# Altium integrated library WS-DISV 2.54 mm small compact SMD Dip Switch with raised actuator.IntLib: 11 symbols
Pins are listed as number, name and electrical type; pins without a type are passive.

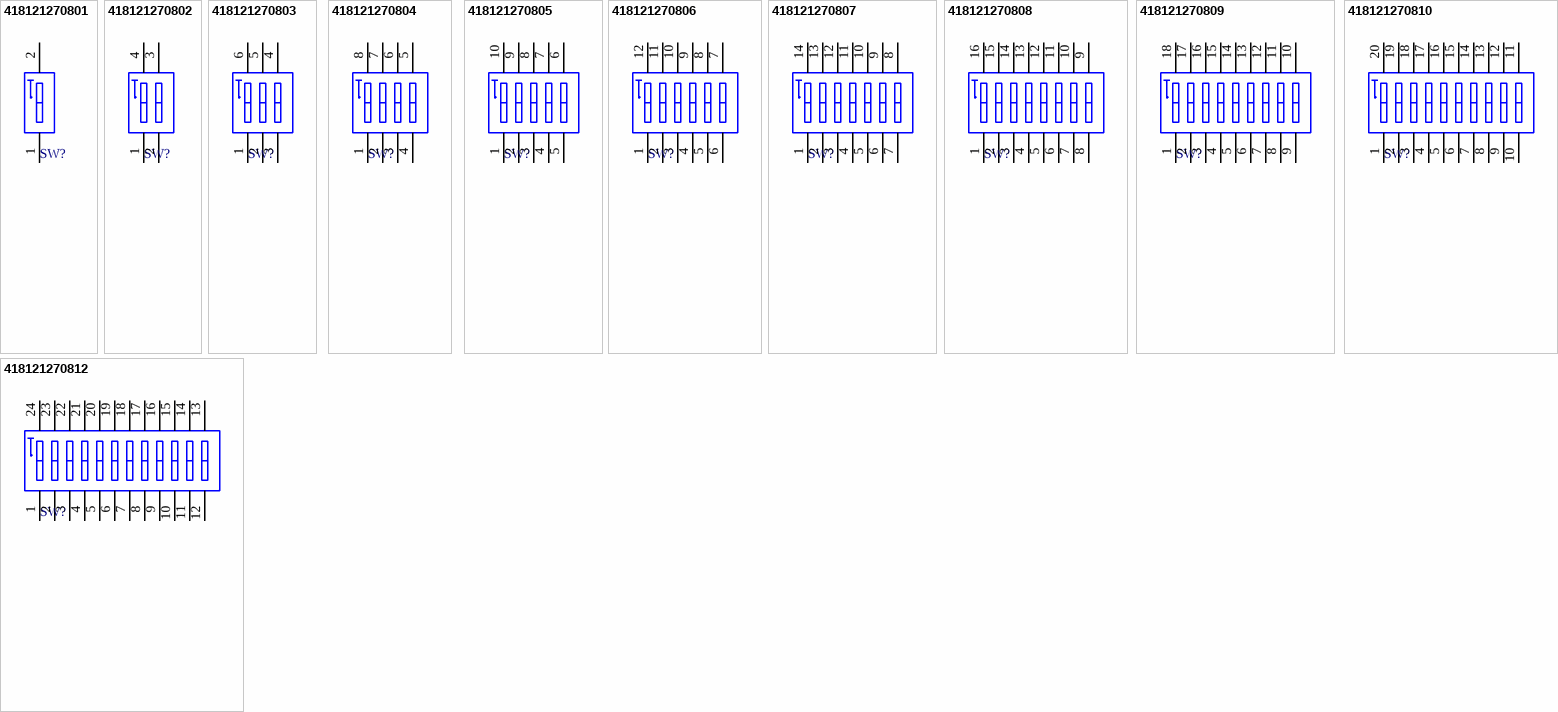
[diagram p0: symbols 418121270801 to 418121270812]

## 418121270801
designator SW?
WS-DISV 2.54 mm small compact SMD Dip Switch with raised actuator; PartNumber: 418121270801; NoPins: 02; PackageReference: 418121270801; ComponentLink1Description: Manufacturer URL; ComponentLink1URL: http://www.we-online.com; ComponentLink2Description: Datasheet; ComponentLink2URL: http://katalog.we-online.de/em/datasheet/4181212708xx.pdf
footprint 418121270801 (01p, 2.54mm Pitch, Horizontal, IC Type, SMT, raised Actuator, black, without Tape, T&R)
pins: 1, 2

## 418121270802
designator SW?
WS-DISV 2.54 mm small compact SMD Dip Switch with raised actuator; PartNumber: 418121270802; NoPins: 04; PackageReference: 418121270802; ComponentLink1Description: Manufacturer URL; ComponentLink1URL: http://www.we-online.com; ComponentLink2Description: Datasheet; ComponentLink2URL: http://katalog.we-online.de/em/datasheet/4181212708xx.pdf
footprint 418121270802 (02p, 2.54mm Pitch, Horizontal, IC Type, SMT, raised Actuator, black, without Tape, T&R)
pins: 1, 2, 3, 4

## 418121270803
designator SW?
WS-DISV 2.54 mm small compact SMD Dip Switch with raised actuator; PartNumber: 418121270803; NoPins: 06; PackageReference: 418121270803; ComponentLink1Description: Manufacturer URL; ComponentLink1URL: http://www.we-online.com; ComponentLink2Description: Datasheet; ComponentLink2URL: http://katalog.we-online.de/em/datasheet/4181212708xx.pdf
footprint 418121270803 (03p, 2.54mm Pitch, Horizontal, IC Type, SMT, raised Actuator, black, without Tape, T&R)
pins: 1, 2, 3, 4, 5, 6

## 418121270804
designator SW?
WS-DISV 2.54 mm small compact SMD Dip Switch with raised actuator; PartNumber: 418121270804; NoPins: 08; PackageReference: 418121270804; ComponentLink1Description: Manufacturer URL; ComponentLink1URL: http://www.we-online.com; ComponentLink2Description: Datasheet; ComponentLink2URL: http://katalog.we-online.de/em/datasheet/4181212708xx.pdf
footprint 418121270804 (04p, 2.54mm Pitch, Horizontal, IC Type, SMT, raised Actuator, black, without Tape, T&R)
pins: 1, 2, 3, 4, 5, 6, 7, 8

## 418121270805
designator SW?
WS-DISV 2.54 mm small compact SMD Dip Switch with raised actuator; PartNumber: 418121270805; NoPins: 10; PackageReference: 418121270805; ComponentLink1Description: Manufacturer URL; ComponentLink1URL: http://www.we-online.com; ComponentLink2Description: Datasheet; ComponentLink2URL: http://katalog.we-online.de/em/datasheet/4181212708xx.pdf
footprint 418121270805 (05p, 2.54mm Pitch, Horizontal, IC Type, SMT, raised Actuator, black, without Tape, T&R)
pins: 1, 2, 3, 4, 5, 6, 7, 8, 9, 10

## 418121270806
designator SW?
WS-DISV 2.54 mm small compact SMD Dip Switch with raised actuator; PartNumber: 418121270806; NoPins: 12; PackageReference: 418121270806; ComponentLink1Description: Manufacturer URL; ComponentLink1URL: http://www.we-online.com; ComponentLink2Description: Datasheet; ComponentLink2URL: http://katalog.we-online.de/em/datasheet/4181212708xx.pdf
footprint 418121270806 (06p, 2.54mm Pitch, Horizontal, IC Type, SMT, raised Actuator, black, without Tape, T&R)
pins: 1, 2, 3, 4, 5, 6, 7, 8, 9, 10, 11, 12

## 418121270807
designator SW?
WS-DISV 2.54 mm small compact SMD Dip Switch with raised actuator; PartNumber: 418121270807; NoPins: 14; PackageReference: 418121270807; ComponentLink1Description: Manufacturer URL; ComponentLink1URL: http://www.we-online.com; ComponentLink2Description: Datasheet; ComponentLink2URL: http://katalog.we-online.de/em/datasheet/4181212708xx.pdf
footprint 418121270807 (07p, 2.54mm Pitch, Horizontal, IC Type, SMT, raised Actuator, black, without Tape, T&R)
pins: 1, 2, 3, 4, 5, 6, 7, 8, 9, 10, 11, 12, 13, 14

## 418121270808
designator SW?
WS-DISV 2.54 mm small compact SMD Dip Switch with raised actuator; PartNumber: 418121270808; NoPins: 16; PackageReference: 418121270808; ComponentLink1Description: Manufacturer URL; ComponentLink1URL: http://www.we-online.com; ComponentLink2Description: Datasheet; ComponentLink2URL: http://katalog.we-online.de/em/datasheet/4181212708xx.pdf
footprint 418121270808 (08p, 2.54mm Pitch, Horizontal, IC Type, SMT, raised Actuator, black, without Tape, T&R)
pins: 1, 2, 3, 4, 5, 6, 7, 8, 9, 10, 11, 12, 13, 14, 15, 16

## 418121270809
designator SW?
WS-DISV 2.54 mm small compact SMD Dip Switch with raised actuator; PartNumber: 418121270809; NoPins: 18; PackageReference: 418121270809; ComponentLink1Description: Manufacturer URL; ComponentLink1URL: http://www.we-online.com; ComponentLink2Description: Datasheet; ComponentLink2URL: http://katalog.we-online.de/em/datasheet/4181212708xx.pdf
footprint 418121270809 (09p, 2.54mm Pitch, Horizontal, IC Type, SMT, raised Actuator, black, without Tape, T&R)
pins: 1, 2, 3, 4, 5, 6, 7, 8, 9, 10, 11, 12, 13, 14, 15, 16, 17, 18

## 418121270810
designator SW?
WS-DISV 2.54 mm small compact SMD Dip Switch with raised actuator; PartNumber: 418121270810; NoPins: 20; PackageReference: 418121270810; ComponentLink1Description: Manufacturer URL; ComponentLink1URL: http://www.we-online.com; ComponentLink2Description: Datasheet; ComponentLink2URL: http://katalog.we-online.de/em/datasheet/4181212708xx.pdf
footprint 418121270810 (10p, 2.54mm Pitch, Horizontal, IC Type, SMT, raised Actuator, black, without Tape, T&R)
pins: 1, 2, 3, 4, 5, 6, 7, 8, 9, 10, 11, 12, 13, 14, 15, 16, 17, 18, 19, 20

## 418121270812
designator SW?
WS-DISV 2.54 mm small compact SMD Dip Switch with raised actuator; PartNumber: 418121270812; NoPins: 24; PackageReference: 418121270812; ComponentLink1Description: Manufacturer URL; ComponentLink1URL: http://www.we-online.com; ComponentLink2Description: Datasheet; ComponentLink2URL: http://katalog.we-online.de/em/datasheet/4181212708xx.pdf
footprint 418121270812 (12p, 2.54mm Pitch, Horizontal, IC Type, SMT, raised Actuator, black, without Tape, T&R)
pins: 1, 2, 3, 4, 5, 6, 7, 8, 9, 10, 11, 12, 13, 14, 15, 16, 17, 18, 19, 20, 21, 22, 23, 24